# Altium schematic symbol library SCH - DRIVER - LED - TI TLC59281_RGE_24.SchLib: 1 symbol
Pins are listed as number, name and electrical type; pins without a type are passive.

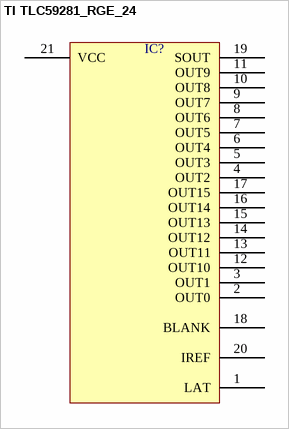
[diagram p0: symbol TI TLC59281_RGE_24]

## TI TLC59281_RGE_24
designator IC?  (value not drawn)
pins: 1 LAT, 2 OUT0, 3 OUT1, 4 OUT2, 5 OUT3, 6 OUT4, 7 OUT5, 8 OUT6, 9 OUT7, 10 OUT8, 11 OUT9, 12 OUT10, 13 OUT11, 14 OUT12, 15 OUT13, 16 OUT14, 17 OUT15, 18 BLANK, 19 SOUT, 20 IREF, 21 VCC